# EAGLE library part 5566-22 (library con-molex_modified)
Mini FIT connector 22 pol Source: http://www.molex.com
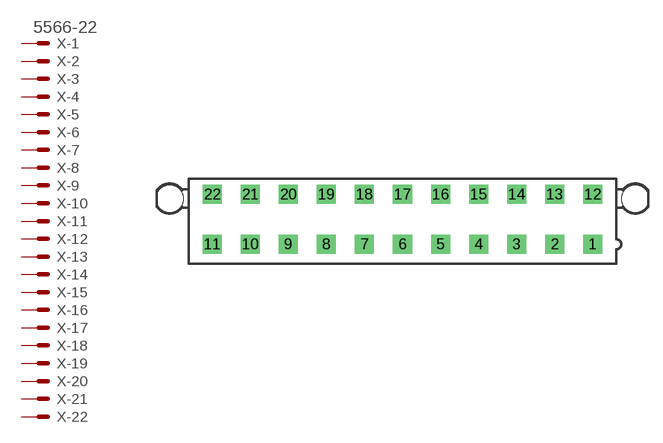
[diagram p119: symbol with the pads of 5566-22; footprint 5566-22]

Designator prefix X; gates -1=MV -2=M -3=M -4=M -5=M -6=M -7=M -8=M -9=M -10=M -11=M -12=M -13=M -14=M -15=M -16=M -17=M -18=M -19=M -20=M -21=M -22=M

## 5566-22 (MF: MOLEX; OC_FARNELL: unknown; OC_NEWARK: unknown)  [5566-22]
1  -1:S  pas
2  -2:S  pas
3  -3:S  pas
4  -4:S  pas
5  -5:S  pas
6  -6:S  pas
7  -7:S  pas
8  -8:S  pas
9  -9:S  pas
10  -10:S  pas
11  -11:S  pas
12  -12:S  pas
13  -13:S  pas
14  -14:S  pas
15  -15:S  pas
16  -16:S  pas
17  -17:S  pas
18  -18:S  pas
19  -19:S  pas
20  -20:S  pas
21  -21:S  pas
22  -22:S  pas

## Footprint 5566-22 (pad centres in mm)
Mini-Fit Jr.™ Vertical Header, 4.20mm Pitch, Dual Row, 22 Circuits, without Snap-in Plastic Peg PCB Lock, Tin, Natural Datasheet <http://www.molex.com/pdm_docs/sd/039281223_sd.pdf>
drill 1.4 square: 1 21,-2.75; 2 16.8,-2.75; 3 12.6,-2.75; 4 8.4,-2.75; 5 4.2,-2.75; 6 0,-2.75; 7 -4.2,-2.75; 8 -8.4,-2.75; 9 -12.6,-2.75; 10 -16.8,-2.75; 11 -21,-2.75; 12 21,2.75; 13 16.8,2.75; 14 12.6,2.75; 15 8.4,2.75; 16 4.2,2.75; 17 0,2.75; 18 -4.2,2.75; 19 -8.4,2.75; 20 -12.6,2.75; 21 -16.8,2.75; 22 -21,2.75
hole 3 at 25.7,2.29
hole 3 at -25.7,2.29